# Altium footprint library DB.PcbLib: 1 footprints
Each footprint in its own frame and in the unit in brackets; x right, y up, seen from the top. Pads: shape width x height; smd on the part's side, far side on the other; paste and mask are expansions set on the pad; w line width, h text height; cw(c..) or ccw(c..) is an arc to the next point about the centre after c.
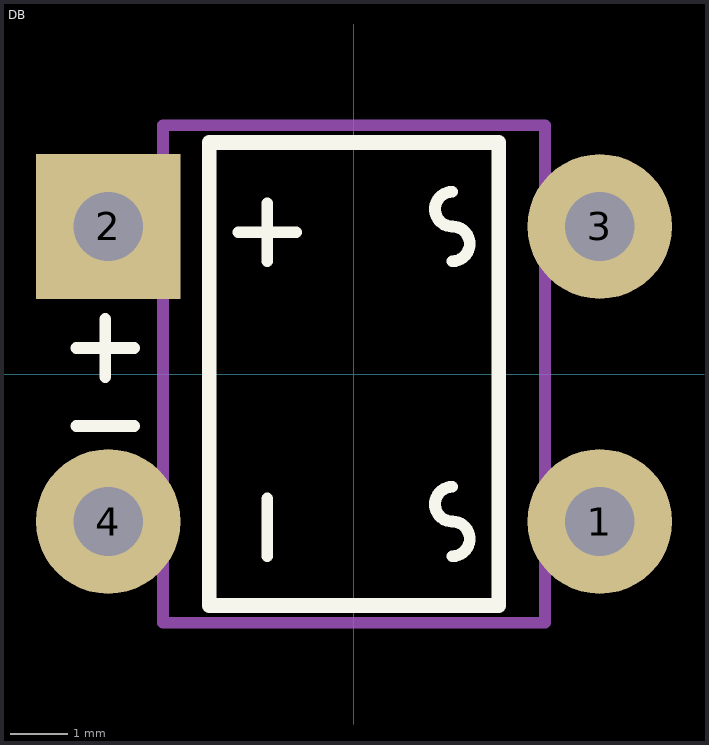
[diagram p0: the footprint, top view; thin cyan lines are the x and y axes]

## DB [mm]
pads (4):
  round 2.5 hole 1.2: 1(4.25,-2.55) 3(4.25,2.55) 4(-4.25,-2.55)
  rect 2.5x2.5 hole 1.2: 2(-4.25,2.55)
Top Overlay:
  lines w0.203: -4.8,-0.9 -3.8,-0.9 ; -4.8,0.45 -3.8,0.45 ; -4.3,-0.05 -4.3,0.95 ; -2,2.45 -1,2.45 ; -1.5,-3.15 -1.5,-2.15 ; -1.5,1.95 -1.5,2.95 ; 1.7,-3.15 ccw(c1.7,-2.85) 1.7,-2.55 cw(c1.7,-2.25) 1.7,-1.95 ; 1.7,1.95 ccw(c1.7,2.25) 1.7,2.55 cw(c1.7,2.85) 1.7,3.15
  lines w0.254: -2.5,-4 -2.5,4 2.5,4 2.5,-4 -2.5,-4
Mechanical 13:
  lines w0.203: -3.3,-4.3 3.3,-4.3 3.3,4.3 -3.3,4.3 -3.3,-4.3